# Altium footprint library SJ3523SMTTR.PcbLib: 1 footprints
Each footprint in its own frame and in the unit in brackets; x right, y up, seen from the top. Pads: shape width x height; smd on the part's side, far side on the other; paste and mask are expansions set on the pad; w line width, h text height; cw(c..) or ccw(c..) is an arc to the next point about the centre after c.
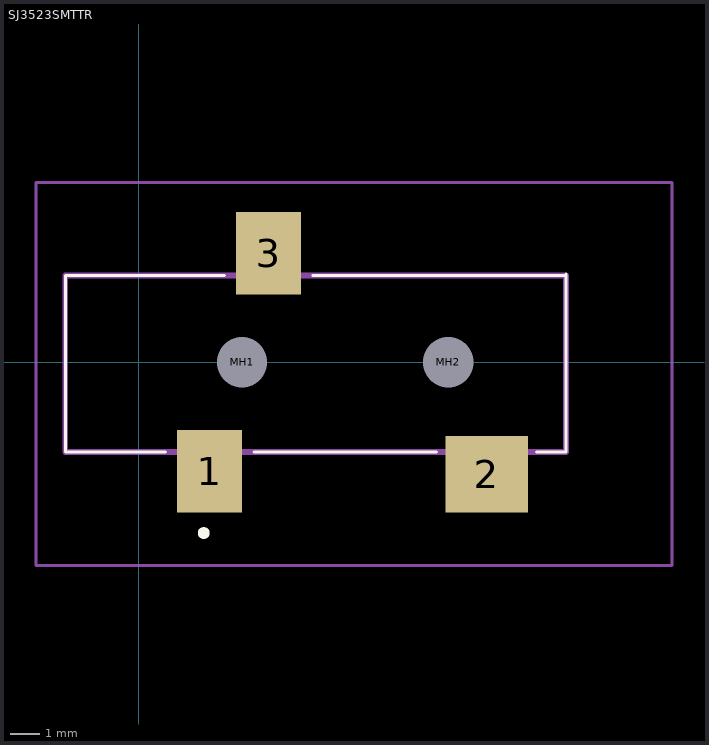
[diagram p0: the footprint, top view; thin cyan lines are the x and y axes]

## SJ3523SMTTR [mm]
pads (5):
  rect 2.2x2.8 smd: 1(2.4,-3.7) 3(4.4,3.7)
  rect 2.8x2.6 smd: 2(11.8,-3.8)
  round 0.85 hole 1.7 unplated: MH1(3.5,0) MH2(10.5,0)
Top Overlay:
  lines w0.1: 0.9,-3.05 -2.5,-3.05 -2.5,2.95 2.9,2.95 ; 3.9,-3.05 10.1,-3.05 ; 5.9,2.95 14.5,2.95 ; 13.5,-3.05 14.5,-3.05 14.5,-1.5 14.5,3
  lines w0.2: 2.1,-5.8 2.1,-5.8 ; 2.1,-5.8 ccw(c2.2,-5.8) 2.3,-5.8 ; 2.1,-5.8 cw(c2.2,-5.8) 2.3,-5.8 ; 2.3,-5.8 2.3,-5.8
Mechanical 15:
  lines w0.2: -2.5,-3.05 14.5,-3.05 14.5,2.95 -2.5,2.95 -2.5,-3.05
Mechanical 20:
  lines w0.1: -3.5,-6.9 18.1,-6.9 18.1,6.1 -3.5,6.1 -3.5,-6.9